# Altium schematic symbol library AES_NSH.SchLib: 77 symbols
Pins are listed as number, name and electrical type; pins without a type are passive.

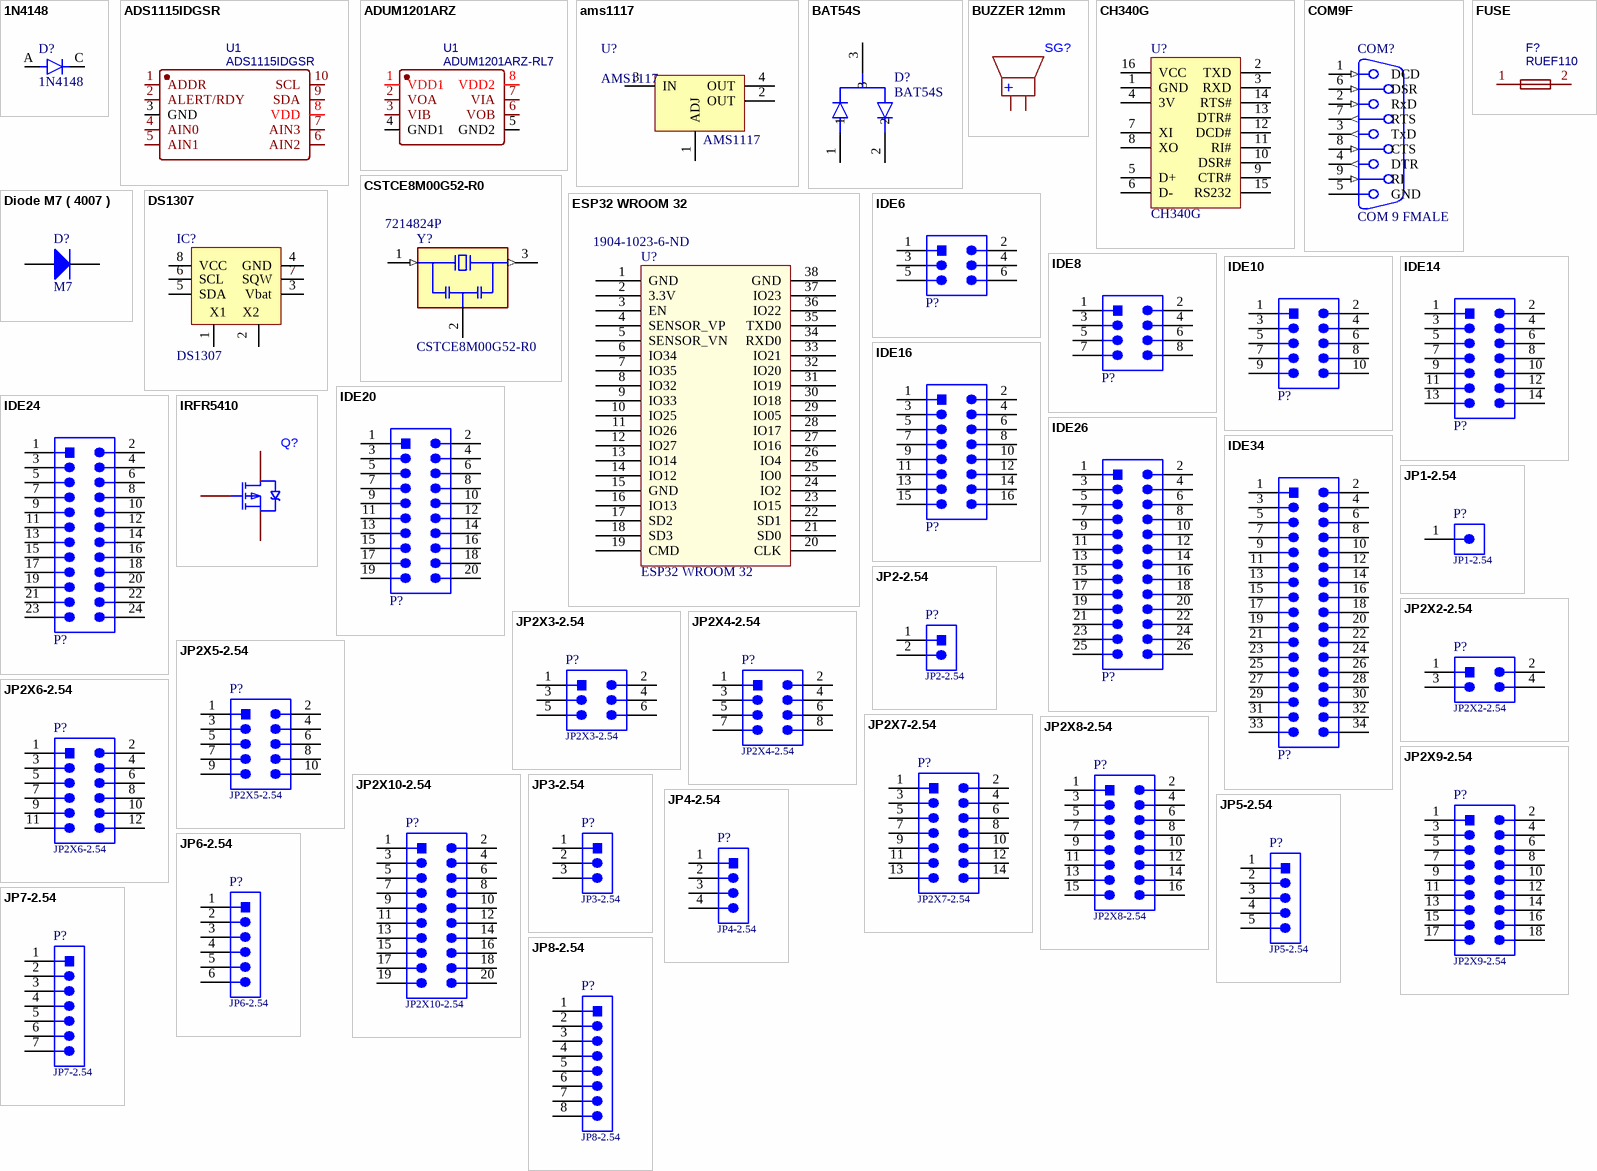
[diagram p0: symbols 1N4148 to JP8-2.54]

## 1N4148
designator D?
Diode Standard 100V 200mA Surface Mount SOD-80; MP: FDLL4148; MF: ON Semiconductor; SnapEDA_Link: https://www.snapeda.com/parts/FDLL4148/ON%20Semiconductor/view-part/2783433/?ref=snap; Package: SOD-80-2 ON Semiconductor; DigiKey-Purchase-URL: https://snapeda.com/shop?store=DigiKey&id=2783433; Value: *; Mouser-Purchase-URL: https://snapeda.com/shop?store=Mouser&id=2783433; Digi-Key_Part_Number: FDLL4148CT-ND; Supplier 1: Newark; Supplier Part Number 1: 65W8782
footprint SOD-80
pins: A, C

## ADS1115IDGSR
designator U1
BOM_Manufacturer: TI; BOM_Supplier: LCSC; BOM_Manufacturer Part: ADS1115IDGSR; BOM_Supplier Part: C37593; BOM_JLCPCB Part Class: Extended Part; spicePre: U; spiceSymbolName: ADS1115IDGSR
footprint MSOP10
pins: 1 ADDR, 2 ALERT/RDY, 3 GND, 4 AIN0, 5 AIN1, 6 AIN2, 7 AIN3, 8 VDD, 9 SDA, 10 SCL

## ADUM1201ARZ
designator U1, comment ADUM1201ARZ-RL7
BOM_Manufacturer: ADI; spicePre: X; BOM_Supplier: LCSC; BOM_Manufacturer Part: ADUM1201ARZ-RL7; BOM_Supplier Part: C9669; BOM_JLCPCB Part Class: Basic Part; spiceSymbolName: ADUM1201ARZ-RL7
footprint SOIC-8
pins: 1 VDD1, 2 VOA, 3 VIB, 4 GND1, 5 GND2, 6 VOB, 7 VIA, 8 VDD2

## ams1117
designator U?, comment AMS1117
Sot223/Pkg 1-Amp 5-Volt Low Drop Out Voltage Regulatator
footprint SOT223-4N (SOT223, 4-Leads, Body 6.5x3.5mm, Pitch 2.3mm, Lead Span 7mm, IPC Medium Density)
pins: 1 ADJ, 2 OUT, 3 IN, 4 OUT

## BAT54S
designator D?
Diode Array 1 Pair Series Connection Schottky 30V 200mA Surface Mount TO-236-3, SC-59, SOT-23-3; MF: ON Semiconductor; Price: None; Value: *; Package: SOT-23-3 ON Semiconductor; Availability: Unavailable; SnapEDA_Link: https://www.snapeda.com/parts/BAT54S/ON%20Semiconductor/view-part/1737355/?ref=snap; MP: BAT54S
footprint SOT-23
pins: 1, 2, 3

## BUZZER 12mm
designator SG?
footprint BUZZ12mm
pins: + 1, - 2

## CH340G
designator U?
High and Low Side Driver; Note: Pins 4, 8 and 14 are not connected; Published: 8-Jun-2000; LatestRevisionDate: 04-Mar-2005; LatestRevisionNote: Stylized 3D Model Added.; DatasheetVersion: PD60147J; PackageReference: PDIP14; Publisher: Altium Limited; PackageDescription: DIP; 14 Leads; Row Spacing 7.62 mm; Pitch 2.54 mm; ComponentLink1Description: Manufacturer Link; ComponentLink1URL: http://www.irf.com/; ComponentLink2Description: Datasheet; ComponentLink2URL: http://www.irf.com/product-info/datasheets/data/ir2110.pdf
footprint SOP-16
footprint DIP-16
pins: 1 GND, 2 TXD, 3 RXD, 4 3V, 5 D+, 6 D-, 7 XI, 8 XO, 9 CTR#, 10 DSR#, 11 RI#, 12 DCD#, 13 DTR#, 14 RTS#, 15 RS232, 16 VCC

## COM9F
designator COM?, comment COM 9 FMALE
COM 9; PackageDocument: O; Positions: 9; Gender: Receptacle; Value: COM 9; Published: 15-Jun-2001; LatestRevisionDate: 17-Jul-2002; LatestRevisionNote: Re-released for DXP Platform.; DatasheetDocument: 1-Sep-1999; PackageReference: 788750; Publisher: Altium Limited; Orientation: Right Angle; Supplier 1: Farnell; Supplier Part Number 1: 1702219
footprint COM9F-D
footprint COM9F-C
pins: 1        DCD (in), 2        RxD (in), 3        TxD (out), 4        DTR (out), 5        GND (power), 6        DSR (in), 7        RTS (out), 8        CTS (in), 9        RI (in), 10 MH1 hidden, 11 MH2 hidden

## CSTCE8M00G52-R0
designator Y?  Supplier Part Number 1: 7214824P
8MHz Ceramic Resonator Built in Capacitor 10pF Â±0.2% -20Â°C ~ 80Â°C Surface Mount; MF: Murata; Price: None; Check_prices: https://www.snapeda.com/parts/CSTCE8M00G52-R0/Murata%20Electronics%20North%20America/view-part/234504/?ref=eda; SnapEDA_Link: https://www.snapeda.com/parts/CSTCE8M00G52-R0/Murata%20Electronics%20North%20America/view-part/234504/?ref=snap; Package: Surface Mount Murata Electronics North America; Availability: Bad; MP: CSTCE8M00G52-R0; Value: *; Supplier 1: RSComponents
footprint CSTCE8M00G52-R0
pins: 1 IN (in), 2 GND (power), 3 OUT (out)

## Diode M7 ( 4007 )
designator D?, comment M7
Dán; Don_Vi: Con; Ten_Linh_Kien: Diode M7 1N4007 SMD 1A 1000V; Ma_Hang: MH000944; Chung_Loai: Dán; Ghi_Chu: *
footprint Diode SMA
pins: 1 A, 2 K

## DS1307
designator IC?
Real Timer Serial; Value: DS1307
footprint SOP-8
pins: 1 X1, 2 X2, 3 Vbat, 4 GND hidden to GND, 4 GND, 5 SDA, 6 SCL, 7 SQW, 8 VCC hidden to VCC, 8 VCC

## ESP32 WROOM 32
designator U?  Supplier Part Number 1: 1904-1023-6-ND
Supplier 1: Digi-Key
footprint ESP32-WROOM-32D
pins: 1 GND, 2 3.3V, 3 EN, 4 SENSOR_VP, 5 SENSOR_VN, 6 IO34, 7 IO35, 8 IO32, 9 IO33, 10 IO25, 11 IO26, 12 IO27, 13 IO14, 14 IO12, 15 GND, 16 IO13, 17 SD2, 18 SD3, 19 CMD, 20 CLK, 21 SD0, 22 SD1, 23 IO15, 24 IO2, 25 IO0, 26 IO4, 27 IO16, 28 IO17, 29 IO05, 30 IO18, 31 IO19, 32 IO20, 33 IO21, 34 RXD0, 35 TXD0, 36 IO22, 37 IO23, 38 GND

## FUSE
designator F?, comment RUEF110
BOM_Manufacturer: Littelfuse; BOM_Supplier: LCSC; BOM_Manufacturer Part: RUEF110; BOM_Supplier Part: C5395; BOM_JLCPCB Part Class: Extended Part; spicePre: F; spiceSymbolName: RUEF110
footprint FUSE 30V 1.1A
pins: 1, 2

## IDE6
designator P?  (value not drawn)
WR-BHD Box Header, Male, pitch 2.54mm, THT, Straight, 6p; Manufacturer: Wurth Elektronik; Manufacturer Part Number: 61200621621; Contact Resistance: 20mOhm; Insulation Resistance: 1000MOhm; Number of Positions: 6; Rated Current: 3A; Withstanding Voltage: 500V; Working Voltage: 250V; ComponentLink1Description: Manufacturer Link; ComponentLink1URL: http://www.we-online.de; ComponentLink2Description: Datasheet; ComponentLink2URL: https://www.we-online.com/catalog/datasheet/61200621621.pdf; Gender: Male; Height: 9.1mm; Length: 15.28mm; Mounting Technology: THT; Number of Rows: 2; Operating Temperature max.: 105C; Operating Temperature min.: -40C; Orientation: Straight; Packaging: Tray; Pitch: 2.54mm; Width: 9.1mm
footprint IDE6-CONG
footprint IDE6-DUNG
pins: 1, 2, 3, 4, 5, 6

## IDE8
designator P?  (value not drawn)
WR-BHD Box Header, Male, pitch 2.54mm, SMT, Straight, 8p; Manufacturer: Wurth Elektronik; Manufacturer Part Number: 61200820621; Contact Resistance: 20mOhm; Insulation Resistance: 1000MOhm; Number of Positions: 8; Rated Current: 3A; Withstanding Voltage: 500V; Working Voltage: 250V; ComponentLink1Description: Manufacturer Link; ComponentLink1URL: http://www.we-online.de; ComponentLink2Description: Datasheet; ComponentLink2URL: https://www.we-online.com/catalog/datasheet/61200820621.pdf; Gender: Male; Height: 9.1mm; Length: 17.66mm; Mounting Technology: SMT; Number of Rows: 2; Operating Temperature max.: 125C; Operating Temperature min.: -40C; Orientation: Straight; Packaging: Tube; Pitch: 2.54mm; Width: 8.8mm
footprint IDE8-CONG
footprint IDE8-DUNG
footprint IDE8-SMD
pins: 1, 2, 3, 4, 5, 6, 7, 8

## IDE10
designator P?  (value not drawn)
WR-BHD Box Header, Male, pitch 2.54mm, SMT, Straight, 10p; Manufacturer: Wurth Elektronik; Manufacturer Part Number: 61201020621; Contact Resistance: 20mOhm; Insulation Resistance: 1000MOhm; Number of Positions: 10; Rated Current: 3A; Withstanding Voltage: 500V; Working Voltage: 250V; ComponentLink1Description: Manufacturer Link; ComponentLink1URL: http://www.we-online.de; ComponentLink2Description: Datasheet; ComponentLink2URL: https://www.we-online.com/catalog/datasheet/61201020621.pdf; Gender: Male; Height: 9.1mm; Length: 20.2mm; Mounting Technology: SMT; Number of Rows: 2; Operating Temperature max.: 125C; Operating Temperature min.: -40C; Orientation: Straight; Packaging: Tube; Pitch: 2.54mm; Width: 8.8mm
footprint IDE10-CONG
footprint IDE10 CAI THANG
footprint IDE10 CAI CONG
footprint IDE10-DUNG
footprint IDE10-SMD
pins: 1, 2, 3, 4, 5, 6, 7, 8, 9, 10

## IDE14
designator P?  (value not drawn)
WR-BHD Box Header, Male, pitch 2.54mm, SMT, Straight, 14p; Manufacturer: Wurth Elektronik; Manufacturer Part Number: 61201420621; Contact Resistance: 20mOhm; Insulation Resistance: 1000MOhm; Number of Positions: 14; Rated Current: 3A; Withstanding Voltage: 500V; Working Voltage: 250V; ComponentLink1Description: Manufacturer Link; ComponentLink1URL: http://www.we-online.de; ComponentLink2Description: Datasheet; ComponentLink2URL: https://www.we-online.com/catalog/datasheet/61201420621.pdf; Gender: Male; Height: 9.1mm; Length: 25.28mm; Mounting Technology: SMT; Number of Rows: 2; Operating Temperature max.: 125C; Operating Temperature min.: -40C; Orientation: Straight; Packaging: Tube; Pitch: 2.54mm; Width: 8.8mm
footprint IDE14 CAI Thang
footprint IDE14 CAI CONG
footprint IDE14-SMD
footprint IDE14-DUNG
footprint IDE14-cong
pins: 1, 2, 3, 4, 5, 6, 7, 8, 9, 10, 11, 12, 13, 14

## IDE16
designator P?  (value not drawn)
WR-BHD Box Header, Male, pitch 2.54mm, SMT, Straight, 16p; Manufacturer: Wurth Elektronik; Manufacturer Part Number: 61201620621; Contact Resistance: 20mOhm; Insulation Resistance: 1000MOhm; Number of Positions: 16; Rated Current: 3A; Withstanding Voltage: 500V; Working Voltage: 250V; ComponentLink1Description: Manufacturer Link; ComponentLink1URL: http://www.we-online.de; ComponentLink2Description: Datasheet; ComponentLink2URL: https://www.we-online.com/catalog/datasheet/61201620621.pdf; Gender: Male; Height: 9.1mm; Length: 27.82mm; Mounting Technology: SMT; Number of Rows: 2; Operating Temperature max.: 125C; Operating Temperature min.: -40C; Orientation: Straight; Packaging: Tube; Pitch: 2.54mm; Width: 8.8mm
footprint IDE16 CAI THANG
footprint IDE16 CAI CONG
footprint IDE16-SMD
footprint IDE16-DUNG
footprint IDE16-CONG
pins: 1, 2, 3, 4, 5, 6, 7, 8, 9, 10, 11, 12, 13, 14, 15, 16

## IDE20
designator P?  (value not drawn)
WR-BHD Box Header, Male, pitch 2.54mm, SMT, Straight, 20p; Manufacturer: Wurth Elektronik; Manufacturer Part Number: 61202020621; Contact Resistance: 20mOhm; Insulation Resistance: 1000MOhm; Number of Positions: 20; Rated Current: 3A; Withstanding Voltage: 500V; Working Voltage: 250V; ComponentLink1Description: Manufacturer Link; ComponentLink1URL: http://www.we-online.de; ComponentLink2Description: Datasheet; ComponentLink2URL: https://www.we-online.com/catalog/datasheet/61202020621.pdf; Gender: Male; Height: 9.1mm; Length: 32.9mm; Mounting Technology: SMT; Number of Rows: 2; Operating Temperature max.: 125C; Operating Temperature min.: -40C; Orientation: Straight; Packaging: Tube; Pitch: 2.54mm; Width: 8.8mm
footprint IDE20 CAI THANG
footprint IDE20 CAI CONG
footprint IDE20-SMD
footprint IDE20-DUNG
footprint IDE20-CONG
pins: 1, 2, 3, 4, 5, 6, 7, 8, 9, 10, 11, 12, 13, 14, 15, 16, 17, 18, 19, 20

## IDE24
designator P?  (value not drawn)
WR-BHD Box Header, Male, pitch 2.54mm, SMT, Straight, 24p; Manufacturer: Wurth Elektronik; Manufacturer Part Number: 61202420621; Contact Resistance: 20mOhm; Insulation Resistance: 1000MOhm; Number of Positions: 24; Rated Current: 3A; Withstanding Voltage: 500V; Working Voltage: 250V; ComponentLink1Description: Manufacturer Link; ComponentLink1URL: http://www.we-online.de; ComponentLink2Description: Datasheet; ComponentLink2URL: https://www.we-online.com/catalog/datasheet/61202420621.pdf; Gender: Male; Height: 9.1mm; Length: 37.98mm; Mounting Technology: SMT; Number of Rows: 2; Operating Temperature max.: 125C; Operating Temperature min.: -40C; Orientation: Straight; Packaging: Tube; Pitch: 2.54mm; Width: 8.8mm
footprint IDE24 CAI THANG
footprint IDE24 CAI CONG
footprint IDE24-SMD
footprint IDE24-DUNG
footprint IDE24-CONG
pins: 1, 2, 3, 4, 5, 6, 7, 8, 9, 10, 11, 12, 13, 14, 15, 16, 17, 18, 19, 20, 21, 22, 23, 24

## IDE26
designator P?  (value not drawn)
WR-BHD Box Header High Temperature, Male, pitch 2.54mm, THT, Straight, 26p; Manufacturer: Wurth Elektronik; Manufacturer Part Number: 612026235121; Contact Resistance: 20mOhm; Insulation Resistance: 1000MOhm; Number of Positions: 26; Rated Current: 3A; Withstanding Voltage: 500V; Working Voltage: 250V; ComponentLink1Description: Manufacturer Link; ComponentLink1URL: http://www.we-online.de; ComponentLink2Description: Datasheet; ComponentLink2URL: https://www.we-online.com/catalog/datasheet/612026235121.pdf; Gender: Male; Height: 9.05mm; Length: 40.62mm; Mounting Technology: THT; Number of Rows: 2; Operating Temperature max.: 125C; Operating Temperature min.: -40C; Orientation: Straight; Packaging: Tray; Pitch: 2.54mm; Width: 9.05mm
footprint IDE26 CAI THANG
footprint IDE26 CAI CONG
footprint IDE26-SMD
footprint IDE26-DUNG
footprint IDE26-CONG
pins: 1, 2, 3, 4, 5, 6, 7, 8, 9, 10, 11, 12, 13, 14, 15, 16, 17, 18, 19, 20, 21, 22, 23, 24, 25, 26

## IDE34
designator P?  (value not drawn)
WR-BHD Box Header, Male, pitch 2.54mm, SMT, Straight, 34p; Manufacturer: Wurth Elektronik; Manufacturer Part Number: 61203420621; Contact Resistance: 20mOhm; Insulation Resistance: 1000MOhm; Number of Positions: 34; Rated Current: 3A; Withstanding Voltage: 500V; Working Voltage: 250V; ComponentLink1Description: Manufacturer Link; ComponentLink1URL: http://www.we-online.de; ComponentLink2Description: Datasheet; ComponentLink2URL: https://www.we-online.com/catalog/datasheet/61203420621.pdf; Gender: Male; Height: 9.1mm; Length: 50.68mm; Mounting Technology: SMT; Number of Rows: 2; Operating Temperature max.: 125C; Operating Temperature min.: -40C; Orientation: Straight; Packaging: Tube; Pitch: 2.54mm; Width: 8.8mm
footprint iDE34 cai cong
footprint ide34 cai thang
footprint IDE34-SMD
footprint IDE34-dung
footprint IDE34-cong
pins: 1, 2, 3, 4, 5, 6, 7, 8, 9, 10, 11, 12, 13, 14, 15, 16, 17, 18, 19, 20, 21, 22, 23, 24, 25, 26, 27, 28, 29, 30, 31, 32, 33, 34

## IRFR5410
designator Q?
Supplier 1: RSComponents
footprint TO-252
pins: 1 G, 2 D, 3 S

## JP1-2.54
designator P?
WR-PHD Pin Header, THT, pitch 2.54mm, Single Row, Vertical, 1p; Manufacturer Part Number: 61300111121; Manufacturer: Wurth Elektronik; Pin Number: 1; Rated Current: 3A; Working Voltage: 250VAC; Withstanding Voltage: 500VAC; Contact Resistance: 20mOhm; ComponentLink1Description: Manufacturer; ComponentLink1URL: http://www.we-online.de; ComponentLink2Description: Datasheet; ComponentLink2URL: https://www.we-online.com/catalog/datasheet/61300111121.pdf; Pitch: 2.54mm; Operating Temperature: -40 to +105degC; Mounting Technology: THT; Packaging: Bag; Gender: Pin Header; Row Number: Single; Orientation: Vertical
footprint jp 1 DT-2.54
pins: 1

## JP2-2.54
designator P?
WR-PHD Pin Header, THT, pitch 2mm, Single Row, Vertical, 2p; Manufacturer Part Number: 62000211121; Manufacturer: Wurth Elektronik; Pin Number: 2; Rated Current: 2A; Working Voltage: 200VAC; Withstanding Voltage: 500VAC; Contact Resistance: 20mOhm; ComponentLink1Description: Manufacturer; ComponentLink1URL: http://www.we-online.de; ComponentLink2Description: Datasheet; ComponentLink2URL: https://www.we-online.com/catalog/datasheet/62000211121.pdf; Pitch: 2mm; Operating Temperature: -40 to +105degC; Mounting Technology: THT; Packaging: Bag; Gender: Pin Header; Row Number: Single; Orientation: Vertical
footprint JP 2 DT-2.54
footprint JP 2 DC-2.54
footprint JP 2 CT-2.54
footprint JP 2 CC-2.54
pins: 1, 2

## JP2X2-2.54
designator P?
WR-PHD Pin Header, THT, pitch 2.54mm, Dual Row, Vertical, 4p; Manufacturer Part Number: 61300421121; Manufacturer: Wurth Elektronik; Pin Number: 4; Rated Current: 3A; Working Voltage: 250VAC; Withstanding Voltage: 500VAC; Contact Resistance: 20mOhm; ComponentLink1Description: Manufacturer; ComponentLink1URL: http://www.we-online.de; ComponentLink2Description: Datasheet; ComponentLink2URL: https://www.we-online.com/catalog/datasheet/61300421121.pdf; Pitch: 2.54mm; Operating Temperature: -40 to +105degC; Mounting Technology: THT; Packaging: Bag; Gender: Pin Header; Row Number: Dual; Orientation: Vertical
footprint JP 2X2 DT-2.54
footprint JP 2X2 DC-2.54
footprint JP 2X2 CT-2.54
footprint JP 2X2 CC-2.54
pins: 1, 2, 3, 4

## JP2X3-2.54
designator P?
WR-PHD Pin Header, THT, pitch 2.54mm, Dual Row, Angled, 6p; Manufacturer Part Number: 61300621021; Manufacturer: Wurth Elektronik; Pin Number: 6; Rated Current: 3A; Working Voltage: 250VAC; Withstanding Voltage: 500VAC; Contact Resistance: 20mOhm; ComponentLink1Description: Manufacturer; ComponentLink1URL: http://www.we-online.de; ComponentLink2Description: Datasheet; ComponentLink2URL: https://www.we-online.com/catalog/datasheet/61300621021.pdf; Pitch: 2.54mm; Operating Temperature: -40 to +105degC; Mounting Technology: THT; Packaging: Bag; Gender: Pin Header; Row Number: Dual; Orientation: Angled
footprint JP 2X3 DT-2.54
footprint JP 2X3 DC-2.54
footprint JP 2X3 CT-2.54
footprint JP 2X3 CC-2.54
pins: 1, 2, 3, 4, 5, 6

## JP2X4-2.54
designator P?
WR-PHD Pin Header, THT, pitch 2.54mm, Dual Row, Angled, 8p; Manufacturer Part Number: 61300821021; Manufacturer: Wurth Elektronik; Pin Number: 8; Rated Current: 3A; Working Voltage: 250VAC; Withstanding Voltage: 500VAC; Contact Resistance: 20mOhm; ComponentLink1Description: Manufacturer; ComponentLink1URL: http://www.we-online.de; ComponentLink2Description: Datasheet; ComponentLink2URL: https://www.we-online.com/catalog/datasheet/61300821021.pdf; Pitch: 2.54mm; Operating Temperature: -40 to +105degC; Mounting Technology: THT; Packaging: Bag; Gender: Pin Header; Row Number: Dual; Orientation: Angled
footprint JP 2X4 DT-2.54
footprint JP 2X4 DC-2.54
footprint JP 2X4 CT-2.54
footprint JP 2X4 CC-2.54
pins: 1, 2, 3, 4, 5, 6, 7, 8

## JP2X5-2.54
designator P?
WR-PHD Pin Header, THT, pitch 2.54mm, Dual Row, Angled, 10p; Manufacturer Part Number: 61301021021; Manufacturer: Wurth Elektronik; Pin Number: 10; Rated Current: 3A; Working Voltage: 250VAC; Withstanding Voltage: 500VAC; Contact Resistance: 20mOhm; ComponentLink1Description: Manufacturer; ComponentLink1URL: http://www.we-online.de; ComponentLink2Description: Datasheet; ComponentLink2URL: https://www.we-online.com/catalog/datasheet/61301021021.pdf; Pitch: 2.54mm; Operating Temperature: -40 to +105degC; Mounting Technology: THT; Packaging: Bag; Gender: Pin Header; Row Number: Dual; Orientation: Angled
footprint JP 2X5 DT-2.54
footprint JP 2X5 DC-2.54
footprint JP 2X5 CT-2.54
footprint JP 2X5 CC-2.54
pins: 1, 2, 3, 4, 5, 6, 7, 8, 9, 10

## JP2X6-2.54
designator P?
WR-PHD Pin Header, THT, pitch 2.54mm, Dual Row, Angled, 12p; Manufacturer Part Number: 61301221021; Manufacturer: Wurth Elektronik; Pin Number: 12; Rated Current: 3A; Working Voltage: 250VAC; Withstanding Voltage: 500VAC; Contact Resistance: 20mOhm; ComponentLink1Description: Manufacturer; ComponentLink1URL: http://www.we-online.de; ComponentLink2Description: Datasheet; ComponentLink2URL: https://www.we-online.com/catalog/datasheet/61301221021.pdf; Pitch: 2.54mm; Operating Temperature: -40 to +105degC; Mounting Technology: THT; Packaging: Bag; Gender: Pin Header; Row Number: Dual; Orientation: Angled
footprint JP 2X6 DT-2.54
footprint JP 2X6 DC-2.54
footprint JP 2X6 CT-2.54
footprint JP 2X6 CC-2.54
pins: 1, 2, 3, 4, 5, 6, 7, 8, 9, 10, 11, 12

## JP2X7-2.54
designator P?
WR-PHD Pin Header, THT, pitch 2.54mm, Dual Row, Angled, 14p; Manufacturer Part Number: 61301421021; Manufacturer: Wurth Elektronik; Pin Number: 14; Rated Current: 3A; Working Voltage: 250VAC; Withstanding Voltage: 500VAC; Contact Resistance: 20mOhm; ComponentLink1Description: Manufacturer; ComponentLink1URL: http://www.we-online.de; ComponentLink2Description: Datasheet; ComponentLink2URL: https://www.we-online.com/catalog/datasheet/61301421021.pdf; Pitch: 2.54mm; Operating Temperature: -40 to +105degC; Mounting Technology: THT; Packaging: Bag; Gender: Pin Header; Row Number: Dual; Orientation: Angled
footprint JP 2X7 DT-2.54
footprint JP 2X7 DC-2.54
footprint JP 2X7 CT-2.54
footprint JP 2X7 CC-2.54
pins: 1, 2, 3, 4, 5, 6, 7, 8, 9, 10, 11, 12, 13, 14

## JP2X8-2.54
designator P?
WR-PHD Pin Header, THT, pitch 2.54mm, Dual Row, Angled, 16p; Manufacturer Part Number: 61301621021; Manufacturer: Wurth Elektronik; Pin Number: 16; Rated Current: 3A; Working Voltage: 250VAC; Withstanding Voltage: 500VAC; Contact Resistance: 20mOhm; ComponentLink1Description: Manufacturer; ComponentLink1URL: http://www.we-online.de; ComponentLink2Description: Datasheet; ComponentLink2URL: https://www.we-online.com/catalog/datasheet/61301621021.pdf; Pitch: 2.54mm; Operating Temperature: -40 to +105degC; Mounting Technology: THT; Packaging: Bag; Gender: Pin Header; Row Number: Dual; Orientation: Angled
footprint JP 2X8 DT-2.54
footprint JP 2X8 DC-2.54
footprint JP 2X8 CT-2.54
footprint JP 2X8 CC-2.54
pins: 1, 2, 3, 4, 5, 6, 7, 8, 9, 10, 11, 12, 13, 14, 15, 16

## JP2X9-2.54
designator P?
WR-PHD Pin Header, THT, pitch 2.54mm, Dual Row, Angled, 18p; Manufacturer Part Number: 61301821021; Manufacturer: Wurth Elektronik; Pin Number: 18; Rated Current: 3A; Working Voltage: 250VAC; Withstanding Voltage: 500VAC; Contact Resistance: 20mOhm; ComponentLink1Description: Manufacturer; ComponentLink1URL: http://www.we-online.de; ComponentLink2Description: Datasheet; ComponentLink2URL: https://www.we-online.com/catalog/datasheet/61301821021.pdf; Pitch: 2.54mm; Operating Temperature: -40 to +105degC; Mounting Technology: THT; Packaging: Bag; Gender: Pin Header; Row Number: Dual; Orientation: Angled
footprint JP 2X9 DT-2.54
footprint JP 2X9 DC-2.54
footprint JP 2X9 CT-2.54
pins: 1, 2, 3, 4, 5, 6, 7, 8, 9, 10, 11, 12, 13, 14, 15, 16, 17, 18

## JP2X10-2.54
designator P?
WR-PHD Pin Header, THT, pitch 2.54mm, Dual Row, Angled, 20p; Manufacturer Part Number: 61302021021; Manufacturer: Wurth Elektronik; Pin Number: 20; Rated Current: 3A; Working Voltage: 250VAC; Withstanding Voltage: 500VAC; Contact Resistance: 20mOhm; ComponentLink1Description: Manufacturer; ComponentLink1URL: http://www.we-online.de; ComponentLink2Description: Datasheet; ComponentLink2URL: https://www.we-online.com/catalog/datasheet/61302021021.pdf; Pitch: 2.54mm; Operating Temperature: -40 to +105degC; Mounting Technology: THT; Packaging: Bag; Gender: Pin Header; Row Number: Dual; Orientation: Angled
footprint JP 2X10 DT-2.54
footprint JP 2X10 DC-2.54
footprint JP 2X10 CT-2.54
footprint JP 2X10 CC-2.54
pins: 1, 2, 3, 4, 5, 6, 7, 8, 9, 10, 11, 12, 13, 14, 15, 16, 17, 18, 19, 20

## JP3-2.54
designator P?
WR-PHD Pin Header, THT, pitch 2.54mm, Single Row, Angled, 3p; Manufacturer Part Number: 61300311021; Manufacturer: Wurth Elektronik; Pin Number: 3; Rated Current: 3A; Working Voltage: 250VAC; Withstanding Voltage: 500VAC; Contact Resistance: 20mOhm; ComponentLink1Description: Manufacturer; ComponentLink1URL: http://www.we-online.de; ComponentLink2Description: Datasheet; ComponentLink2URL: https://www.we-online.com/catalog/datasheet/61300311021.pdf; Pitch: 2.54mm; Operating Temperature: -40 to +105degC; Mounting Technology: THT; Packaging: Bag; Gender: Pin Header; Row Number: Single; Orientation: Angled
footprint JP 3 DT-2.54
footprint JP 3 DC-2.54
footprint JP 3 CT-2.54
footprint JP 3 CC-2.54
pins: 1, 2, 3

## JP4-2.54
designator P?
WR-PHD Pin Header, THT, pitch 2.54mm, Single Row, Angled, 4p; Manufacturer Part Number: 61300411021; Manufacturer: Wurth Elektronik; Pin Number: 4; Rated Current: 3A; Working Voltage: 250VAC; Withstanding Voltage: 500VAC; Contact Resistance: 20mOhm; ComponentLink1Description: Manufacturer; ComponentLink1URL: http://www.we-online.de; ComponentLink2Description: Datasheet; ComponentLink2URL: https://www.we-online.com/catalog/datasheet/61300411021.pdf; Pitch: 2.54mm; Operating Temperature: -40 to +105degC; Mounting Technology: THT; Packaging: Bag; Gender: Pin Header; Row Number: Single; Orientation: Angled
footprint JP 4 DT-2.54
footprint JP 4 DC-2.54
footprint JP 4 CT-2.54
footprint JP 4 CC-2.54
pins: 1, 2, 3, 4

## JP5-2.54
designator P?
WR-PHD Pin Header, THT, pitch 2.54mm, Single Row, Angled, 5p; Manufacturer Part Number: 61300511021; Manufacturer: Wurth Elektronik; Pin Number: 5; Rated Current: 3A; Working Voltage: 250VAC; Withstanding Voltage: 500VAC; Contact Resistance: 20mOhm; ComponentLink1Description: Manufacturer; ComponentLink1URL: http://www.we-online.de; ComponentLink2Description: Datasheet; ComponentLink2URL: https://www.we-online.com/catalog/datasheet/61300511021.pdf; Pitch: 2.54mm; Operating Temperature: -40 to +105degC; Mounting Technology: THT; Packaging: Bag; Gender: Pin Header; Row Number: Single; Orientation: Angled
footprint JP 5 DT-2.54
footprint JP 5 DC-2.54
footprint JP 5 CT-2.54
footprint JP 5 CC-2.54
pins: 1, 2, 3, 4, 5

## JP6-2.54
designator P?
WR-PHD Pin Header, THT, pitch 2.54mm, Single Row, Angled, 6p; Manufacturer Part Number: 61300611021; Manufacturer: Wurth Elektronik; Pin Number: 6; Rated Current: 3A; Working Voltage: 250VAC; Withstanding Voltage: 500VAC; Contact Resistance: 20mOhm; ComponentLink1Description: Manufacturer; ComponentLink1URL: http://www.we-online.de; ComponentLink2Description: Datasheet; ComponentLink2URL: https://www.we-online.com/catalog/datasheet/61300611021.pdf; Pitch: 2.54mm; Operating Temperature: -40 to +105degC; Mounting Technology: THT; Packaging: Bag; Gender: Pin Header; Row Number: Single; Orientation: Angled
footprint JP 6 DT-2.54
footprint JP 6 DC-2.54
footprint JP 6 CT-2.54
footprint JP 6 CC-2.54
pins: 1, 2, 3, 4, 5, 6

## JP7-2.54
designator P?
WR-PHD Pin Header, THT, pitch 2.54mm, Single Row, Angled, 7p; Manufacturer Part Number: 61300711021; Manufacturer: Wurth Elektronik; Pin Number: 7; Rated Current: 3A; Working Voltage: 250VAC; Withstanding Voltage: 500VAC; Contact Resistance: 20mOhm; ComponentLink1Description: Manufacturer; ComponentLink1URL: http://www.we-online.de; ComponentLink2Description: Datasheet; ComponentLink2URL: https://www.we-online.com/catalog/datasheet/61300711021.pdf; Pitch: 2.54mm; Operating Temperature: -40 to +105degC; Mounting Technology: THT; Packaging: Bag; Gender: Pin Header; Row Number: Single; Orientation: Angled
footprint JP 7 DT-2.54
footprint JP 7 DC-2.54
footprint JP 7 CT-2.54
footprint JP 7 CC-2.54
pins: 1, 2, 3, 4, 5, 6, 7

## JP8-2.54
designator P?
WR-PHD Pin Header, THT, pitch 2.54mm, Single Row, Vertical, 8p; Manufacturer Part Number: 61300811121; Manufacturer: Wurth Elektronik; Pin Number: 8; Rated Current: 3A; Working Voltage: 250VAC; Withstanding Voltage: 500VAC; Contact Resistance: 20mOhm; ComponentLink1Description: Manufacturer; ComponentLink1URL: http://www.we-online.de; ComponentLink2Description: Datasheet; ComponentLink2URL: https://www.we-online.com/catalog/datasheet/61300811121.pdf; Pitch: 2.54mm; Operating Temperature: -40 to +105degC; Mounting Technology: THT; Packaging: Bag; Gender: Pin Header; Row Number: Single; Orientation: Vertical
footprint JP 8 DT-2.54
footprint JP 8 DC-2.54
footprint JP 8 CT-2.54
footprint JP 8 CC-2.54
pins: 1, 2, 3, 4, 5, 6, 7, 8

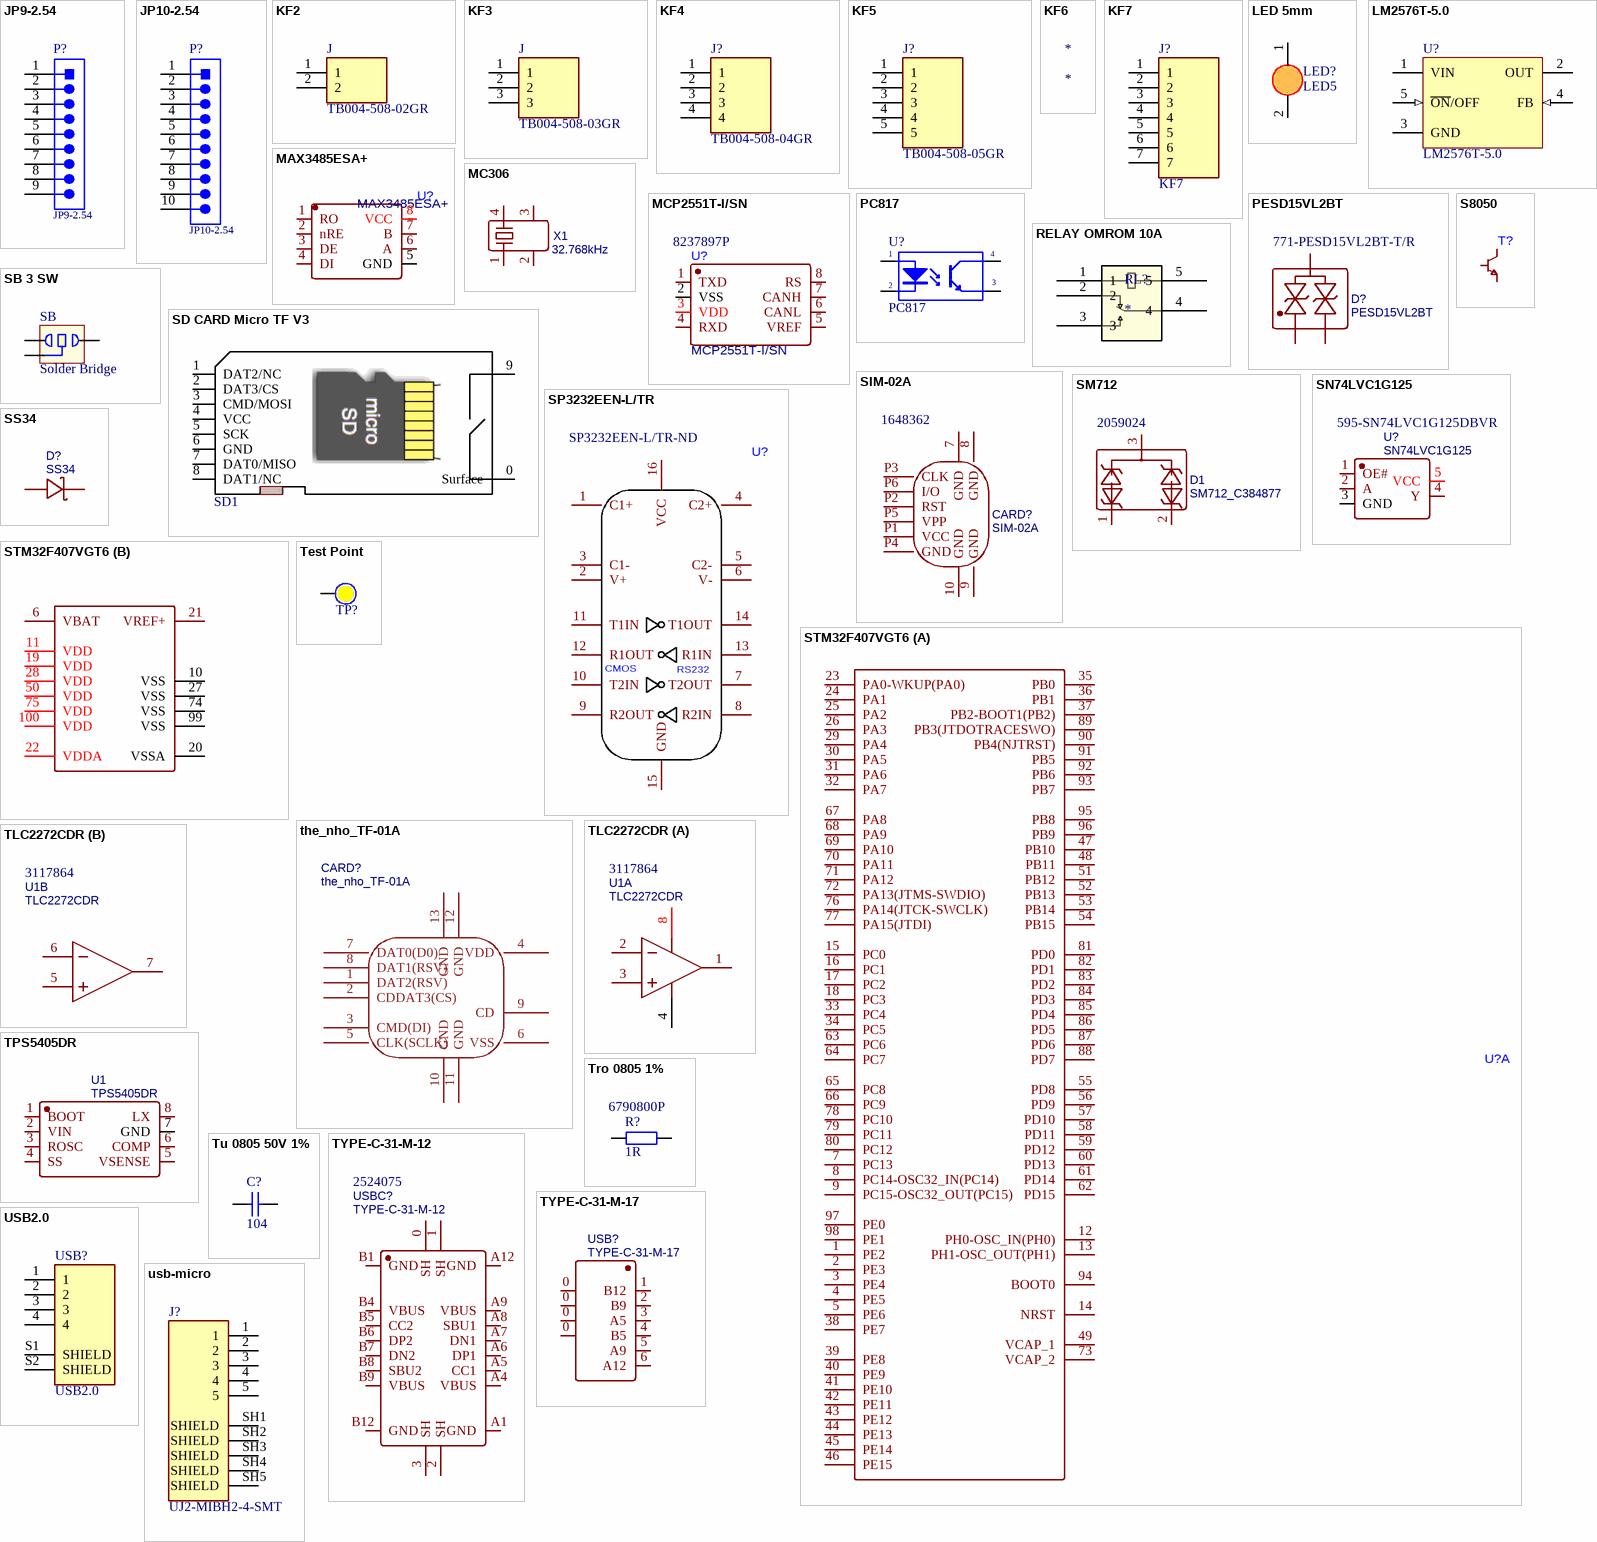
[diagram p1: symbols JP9-2.54 to usb-micro]

## JP9-2.54
designator P?
WR-PHD Pin Header, THT, pitch 2.54mm, Single Row, Vertical, 9p; Manufacturer Part Number: 61300911121; Manufacturer: Wurth Elektronik; Pin Number: 9; Rated Current: 3A; Working Voltage: 250VAC; Withstanding Voltage: 500VAC; Contact Resistance: 20mOhm; ComponentLink1Description: Manufacturer; ComponentLink1URL: http://www.we-online.de; ComponentLink2Description: Datasheet; ComponentLink2URL: https://www.we-online.com/catalog/datasheet/61300911121.pdf; Pitch: 2.54mm; Operating Temperature: -40 to +105degC; Mounting Technology: THT; Packaging: Bag; Gender: Pin Header; Row Number: Single; Orientation: Vertical
footprint JP 9 DT-2.54
footprint JP 9 DC-2.54
footprint JP 9 CT-2.54
footprint JP 9 CC-2.54
pins: 1, 2, 3, 4, 5, 6, 7, 8, 9

## JP10-2.54
designator P?
WR-PHD Pin Header, THT, pitch 2.54mm, Single Row, Angled, 10p; Manufacturer Part Number: 61301011021; Manufacturer: Wurth Elektronik; Pin Number: 10; Rated Current: 3A; Working Voltage: 250VAC; Withstanding Voltage: 500VAC; Contact Resistance: 20mOhm; ComponentLink1Description: Manufacturer; ComponentLink1URL: http://www.we-online.de; ComponentLink2Description: Datasheet; ComponentLink2URL: https://www.we-online.com/catalog/datasheet/61301011021.pdf; Pitch: 2.54mm; Operating Temperature: -40 to +105degC; Mounting Technology: THT; Packaging: Bag; Gender: Pin Header; Row Number: Single; Orientation: Angled
footprint JP 10 DT-2.54
footprint JP 10 DC-2.54
footprint JP 10 CT-2.54
footprint JP 10 CC-2.54
pins: 1, 2, 3, 4, 5, 6, 7, 8, 9, 10

## KF2
designator J, comment TB004-508-02GR
2~24 Poles, Screw Type, Horizontal, 5.08 Pitch, 24~12 _AWG_, Terminal Block Connector; MF: CUI Devices; Availability: Unavailable; CUI_purchase_URL: https://www.cuidevices.com/product/interconnect/connectors/terminal-blocks/tb004-508-series?utm_source=snapeda.com&utm_medium=referral&utm_campaign=snapedaBOM; Value: *; SnapEDA_Link: https://www.snapeda.com/parts/TB004-508-02GR/CUI%20Devices/view-part/3590869/?ref=snap; Price: None; Package: None; MP: TB004-508-02GR
footprint KF2-5.08
pins: 1, 2

## KF3
designator J, comment TB004-508-03GR
MF: CUI Devices; MP: TB004-508-03GR; Availability: Unavailable; SnapEDA_Link: https://www.snapeda.com/parts/TB004-508-03GR/CUI%20Devices/view-part/3590874/?ref=snap; Package: None; Price: None; Value: *
footprint KF3-5.08
pins: 1, 2, 3

## KF4
designator J?, comment TB004-508-04GR
Package: None; Price: None; Value: *; MP: TB004-508-04GR; Availability: Unavailable
footprint KF4-5.08
pins: 1, 2, 3, 4

## KF5
designator J?, comment TB004-508-05GR
Package: None; Price: None; Value: *; MP: TB004-508-05GR; Availability: Unavailable
footprint KF5-5.08
pins: 1, 2, 3, 4, 5

## KF6
designator *
footprint KF6-5.08

## KF7
designator J?
MP: TB004-508-07GR; Package: None; Price: None; Value: *; Availability: Unavailable
footprint KF7-5.08
pins: 1, 2, 3, 4, 5, 6, 7

## LED 5mm
designator LED?, comment LED5
LED 5mm
footprint LED5mm-green
footprint LED5mm-blue
footprint led5mm-yellow
footprint led5mm-red
pins: 1 A, 2 K

## LM2576T-5.0
designator U?
SIMPLE SWITCHER; 3A Step-Down Voltage Regulator; Manufacturer: National Semiconductor; PackageTopMarking: NSUZXYTT*LM2576T*-5.0 P+; PowerWise: N; FirstPublished: 4-Dec-2008; DatasheetVersion: Aug-2004; PackageVersion: revJ, Jan-1992; PackageReference: T05A; Publisher: Altium Limited; PackageDescription: TO-220, Molded, 5 Lead, Straight; CompType: Switcher; PartNumber: LM2576T-5.0; RoHS: O; PinCount: 5; DigiKeyPartNumber: LM2576T-5.0-ND; Code_JEDEC: TO-220-AB; ComponentLink1Description: LM2576 Datasheet; ComponentLink1URL: http://www.national.com/ds/LM/LM2576.pdf; ComponentLink2Description: LM2576 Web Page; ComponentLink2URL: http://www.national.com/pf/LM/LM2576.html; ComponentLink3Description: T05A Package Page; ComponentLink3URL: http://www.national.com/packaging/folders/t05a.html
footprint TO-263-5
pins: 1 VIN (power), 2 OUT (power), 3 GND (power), 4 FB (in), 5 ~{ON}/OFF (in)

## MAX3485ESA+
designator U?
Supplier 1: RSComponents; Supplier Part Number 1: 5403577P
footprint SOP-8
footprint DIP-8
pins: 1 RO, 2 nRE, 3 DE, 4 DI, 5 GND, 6 A, 7 B, 8 VCC

## MC306
designator X1, comment 32.768kHz
BOM_Manufacturer Part: Q13MC3061000300; BOM_Manufacturer: EPSON; nameAlias: Frequency; BOM_Supplier: LCSC; BOM_Supplier Part: C16320; BOM_JLCPCB Part Class: Extended Part; spicePre: X; spiceSymbolName: Q13MC3061000300
footprint MC306
pins: 1, 2, 3, 4

## MCP2551T-I/SN
designator U?  Supplier Part Number 1: 8237897P
Supplier 1: RSComponents
footprint SOIC-8
footprint DIP-8
pins: 1 TXD, 2 VSS, 3 VDD, 4 RXD, 5 VREF, 6 CANL, 7 CANH, 8 RS

## PC817
designator U?
Single Opto; Value: PC817
footprint DIP-4
footprint SOP-4
pins: 1 A "Anode", 2 K "Cathode", 3 E "Emitter", 4 C "Collector"

## PESD15VL2BT
designator D?  Supplier Part Number 1: 771-PESD15VL2BT-T/R
BOM_Manufacturer: TECH PUBLIC(台舟); BOM_Manufacturer Part: TPPESD15VL2BT; Contributor: LCSC; BOM_Supplier: LCSC; BOM_Supplier Part: C2682274; BOM_JLCPCB Part Class: Extended Part; spicePre: D; spiceSymbolName: TPPESD15VL2BT; Supplier 1: Mouser
footprint SOT-23
pins: 1, 2, 3

## RELAY OMROM 10A
designator RL?
Supplier 1: Digi-Key; Supplier Part Number 1: Z12715-ND
footprint RELAY ORMON
pins: 1, 2, 3, 4, 5

## S8050
designator T?
footprint S8050 SMD
footprint SOT-23
pins: 1 B, 2 E, 3 C

## SB 3 SW
designator SB, comment Solder Bridge  (no BOM)
Solder Bridge 3; Solder: Not Fill; Value: Solder Bridge
footprint SB 3
pins: 1, 2, 3

## SD CARD Micro TF V3
designator SD1  (value not drawn)
Value: SD CARD Micro TF V3
footprint SD_CARD
pins: 0 Surface, 1 DAT2/NC, 2 DAT3/CS, 3 CMD/MOSI, 4 VCC, 5 SCK, 6 GND, 7 DAT0/MISO, 8 DAT1/NC, 9
text: SanDisk; Adapter; LOCK

## SIM-02A
designator CARD?  Supplier Part Number 1: 1648362
BOM_Manufacturer: 韩国韩荣; Contributor: LCSC; BOM_Supplier: LCSC; BOM_Supplier Part: C693838; BOM_Manufacturer Part: SIM-02A; BOM_JLCPCB Part Class: Extended Part; spicePre: C; spiceSymbolName: SIM-02A; Supplier 1: RSComponents
footprint sim_card 6P
pins: 7 GND, 8 GND, 9 GND, 10 GND, P1 VCC, P2 RST, P3 CLK, P4 GND, P5 VPP, P6 I/O

## SM712
designator D1, comment SM712_C384877  Supplier Part Number 1: 2059024
BOM_Manufacturer: Leiditech; BOM_Manufacturer Part: SM712; Contributor: LCSC; BOM_Supplier: LCSC; BOM_Supplier Part: C384877; BOM_JLCPCB Part Class: Extended Part; spicePre: D; spiceSymbolName: SM712_C384877; Supplier 1: Farnell
footprint SOT-23
pins: 1, 2, 3

## SN74LVC1G125
designator U?  Supplier Part Number 1: 595-SN74LVC1G125DBVR
BOM_Manufacturer: TI(德州仪器); BOM_Manufacturer Part: SN74LVC1G125DCKT; Contributor: LCSC; BOM_Supplier: LCSC; BOM_Supplier Part: C2675550; BOM_JLCPCB Part Class: Extended Part; spicePre: U; spiceSymbolName: SN74LVC1G125DCKT; Supplier 1: Mouser
footprint SOT23-5
pins: 1 OE#, 2 A, 3 GND, 4 Y, 5 VCC

## SP3232EEN-L/TR
designator U?  Supplier Part Number 1: SP3232EEN-L/TR-ND
Supplier 1: Digi-Key
footprint SOIC-16
pins: 1 C1+, 2 V+, 3 C1-, 4 C2+, 5 C2-, 6 V-, 7 T2OUT, 8 R2IN, 9 R2OUT, 10 T2IN, 11 T1IN, 12 R1OUT, 13 R1IN, 14 T1OUT, 15 GND, 16 VCC
text: CMOS; RS232

## SS34
designator D?
BOM_Manufacturer: JH; Contributor: LCSC; BOM_Supplier: LCSC; BOM_Supplier Part: C478723; BOM_Manufacturer Part: SS34; BOM_JLCPCB Part Class: Extended Part; spicePre: D; spiceSymbolName: SS34_C478723
footprint SMA
pins: 1 A, 2 K

## STM32F407VGT6
designator U?
Supplier 1: RSComponents
footprint LQFP100
part A pins: 1 PE2, 2 PE3, 3 PE4, 4 PE5, 5 PE6, 7 PC13, 8 PC14-OSC32_IN(PC14), 9 PC15-OSC32_OUT(PC15), 12 PH0-OSC_IN(PH0), 13 PH1-OSC_OUT(PH1), 14 NRST, 15 PC0, 16 PC1, 17 PC2, 18 PC3, 23 PA0-WKUP(PA0), 24 PA1, 25 PA2, 26 PA3, 29 PA4, 30 PA5, 31 PA6, 32 PA7, 33 PC4, 34 PC5, 35 PB0, 36 PB1, 37 PB2-BOOT1(PB2), 38 PE7, 39 PE8, 40 PE9, 41 PE10, 42 PE11, 43 PE12, 44 PE13, 45 PE14, 46 PE15, 47 PB10, 48 PB11, 49 VCAP_1, 51 PB12, 52 PB13, 53 PB14, 54 PB15, 55 PD8, 56 PD9, 57 PD10, 58 PD11, 59 PD12, 60 PD13, 61 PD14, 62 PD15, 63 PC6, 64 PC7, 65 PC8, 66 PC9, 67 PA8, 68 PA9, 69 PA10, 70 PA11, 71 PA12, 72 PA13(JTMS-SWDIO), 73 VCAP_2, 76 PA14(JTCK-SWCLK), 77 PA15(JTDI), 78 PC10, 79 PC11, 80 PC12, 81 PD0, 82 PD1, 83 PD2, 84 PD3, 85 PD4, 86 PD5, 87 PD6, 88 PD7, 89 PB3(JTDOTRACESWO), 90 PB4(NJTRST), 91 PB5, 92 PB6, 93 PB7, 94 BOOT0, 95 PB8, 96 PB9, 97 PE0, 98 PE1
part B pins: 6 VBAT, 10 VSS, 11 VDD, 19 VDD, 20 VSSA, 21 VREF+, 22 VDDA, 27 VSS, 28 VDD, 50 VDD, 74 VSS, 75 VDD, 99 VSS, 100 VDD

## Test Point
designator TP?  (no BOM)
Test Point; Solder: NF
footprint tp 1mm
footprint tp 1.5mm
footprint tp 2 side 1mm
footprint tp 2 side 1.5mm
pins: 0

## the_nho_TF-01A
designator CARD?
BOM_Manufacturer: HRO; BOM_Manufacturer Part: TF-01A; BOM_Supplier: LCSC; BOM_Supplier Part: C91145; BOM_JLCPCB Part Class: Extended Part; spicePre: C; spiceSymbolName: TF-01A; Supplier 1: Newark; Supplier Part Number 1: 01AC2228
footprint TF-01A
pins: 1 DAT2(RSV), 2 CDDAT3(CS), 3 CMD(DI), 4 VDD, 5 CLK(SCLK), 6 VSS, 7 DAT0(D0), 8 DAT1(RSV), 9 CD, 10 GND, 11 GND, 12 GND, 13 GND

## TLC2272CDR
designator U1  Supplier Part Number 1: 3117864
BOM_Manufacturer: TI; BOM_Manufacturer Part: TLC2272CDRG4; subpart_no: 4; tags: General Operational Amplifier; SMT Type: Extend; BOM_Supplier Part: C6979; BOM_Supplier: LCSC; image: http://image.lceda.cn/szlcsc/C6979.jpg; BOM_LCSC Assembly: Yes; BOM_JLCPCB Part Class: Extended Part; spicePre: U; spiceSymbolName: TLC2272CDR; Supplier 1: Farnell
footprint SOIC-8
part A pins: 1 OUT1, 2 IN1-, 3 IN1+, 4 GND, 8 VDD
part B pins: 5 IN2+, 6 IN2-, 7 OUT2

## TPS5405DR
designator U1
BOM_Manufacturer: Texas Instruments; Contributor: LCSC; BOM_Supplier: LCSC; BOM_Supplier Part: C488409; BOM_Manufacturer Part: TPS5405DR; BOM_JLCPCB Part Class: Extended Part; spicePre: U; spiceSymbolName: TPS5405DR
footprint SOIC-8
pins: 1 BOOT, 2 VIN, 3 ROSC, 4 SS, 5 VSENSE, 6 COMP, 7 GND, 8 LX

## Tro 0805 1%
designator R?, comment 1R  Supplier Part Number 1: 6790800P
Dán; Don_Vi: Con; So_Chan: 2; Ten_Linh_Kien: Trở 0805 1% 1R; Ma_Hang: MH004177; Chung_Loai: Dán; Kieu_Chan: *; Supplier 1: RSComponents
footprint tro 0805
pins: 1, 2

## Tu 0805 50V 1%
designator C?, comment 104
Dán; Don_Vi: Con; So_Chan: 2; Ten_Linh_Kien: Tụ 0805 104-100nF 10% 50V; Ma_Hang: MH004551; Chung_Loai: Dán; Kieu_Chan: *
footprint tu 0805 (Compoment SMD 80x50mil)
pins: 1, 2

## TYPE-C-31-M-12
designator USBC?  Supplier Part Number 1: 2524075
BOM_Manufacturer: 韩国韩荣; Contributor: LCSC; BOM_Supplier: LCSC; BOM_Supplier Part: C165948; BOM_Manufacturer Part: TYPE-C-31-M-12; BOM_JLCPCB Part Class: Extended Part; spicePre: U; spiceSymbolName: TYPE-C-31-M-12; Supplier 1: Farnell
footprint TYPE_C_16P
pins: 0 SH, 1 SH, 2 SH, 3 SH, A1 GND, A4 VBUS, A5 CC1, A6 DP1, A7 DN1, A8 SBU1, A9 VBUS, A12 GND, B1 GND, B4 VBUS, B5 CC2, B6 DP2, B7 DN2, B8 SBU2, B9 VBUS, B12 GND

## TYPE-C-31-M-17
designator USB?
BOM_Manufacturer: Korean Hroparts Elec; Contributor: LCSC; BOM_Supplier: LCSC; BOM_Supplier Part: C283540; BOM_Manufacturer Part: TYPE-C-31-M-17; BOM_JLCPCB Part Class: Extended Part; spicePre: U; spiceSymbolName: TYPE-C-31-M-17
footprint TYPE_C_6P
pins: 0, 0, 0, 0, 1 B12, 2 B9, 3 A5, 4 B5, 5 A9, 6 A12

## USB2.0
designator USB?
USB 2.0 - B Connector | 1 Port | Vertical Receptacle | Shielded; MP: SS-52300-002; MF: Stewart Connector; Value: *; SnapEDA_Link: https://www.snapeda.com/parts/SS-52300-002/Stewart%20Connector/view-part/4628618/?ref=snap; Mouser-Purchase-URL: https://snapeda.com/shop?store=Mouser&id=4628618; Price: None; DigiKey-Purchase-URL: https://snapeda.com/shop?store=DigiKey&id=4628618; Package: None; Availability: Unavailable
footprint USB2.0 DUNG
pins: 1, 2, 3, 4, S1 SHIELD, S2 SHIELD

## usb-micro
designator J?, comment UJ2-MIBH2-4-SMT
Micro B, USB 2.0, 1.8 A, Right Angle, Surface Mount _SMT_, USB Receptacle; MF: CUI Devices; SnapEDA_Link: https://www.snapeda.com/parts/UJ2-MIBH2-4-SMT/CUI%20Devices/view-part/563315/?ref=snap; Package: None; MP: UJ2-MIBH2-4-SMT; Value: *; CUI_purchase_URL: https://www.cuidevices.com/product/interconnect/connectors/usb-connectors/uj2-mibh2-4-smt?utm_source=snapeda.com&utm_medium=referral&utm_campaign=snapedaBOM; Availability: Unavailable; Price: None
footprint usb micro-dip
pins: 1, 2, 3, 4, 5, SH1 SHIELD, SH2 SHIELD, SH3 SHIELD, SH4 SHIELD, SH5 SHIELD

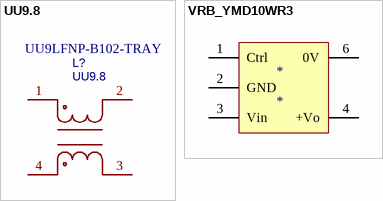
[diagram p2: symbols UU9.8 to VRB_YMD10WR3]

## UU9.8
designator L?  Supplier Part Number 1: UU9LFNP-B102-TRAY
BOM_Manufacturer: Guangdong Fenghua Advanced Tech; BOM_Manufacturer Part: UU9.8-5mH; nameAlias: Value; Contributor: LCSC; BOM_Supplier: LCSC; BOM_Supplier Part: C116373; BOM_JLCPCB Part Class: Extended Part; spicePre: L; spiceSymbolName: UU9.8-5MH; Supplier 1: Future Electronics
footprint UU9.8
pins: 1, 2, 3, 4

## VRB_YMD10WR3
designator *
footprint VRB2405
pins: 1 Ctrl, 2 GND, 3 Vin, 4 +Vo, 6 0V